# Altium footprint library 电容.PcbLib: 58 footprints (part 3 of 4)
Each footprint in its own frame and in the unit in brackets; x right, y up, seen from the top. Pads: shape width x height; smd on the part's side, far side on the other; paste and mask are expansions set on the pad; w line width, h text height; cw(c..) or ccw(c..) is an arc to the next point about the centre after c.
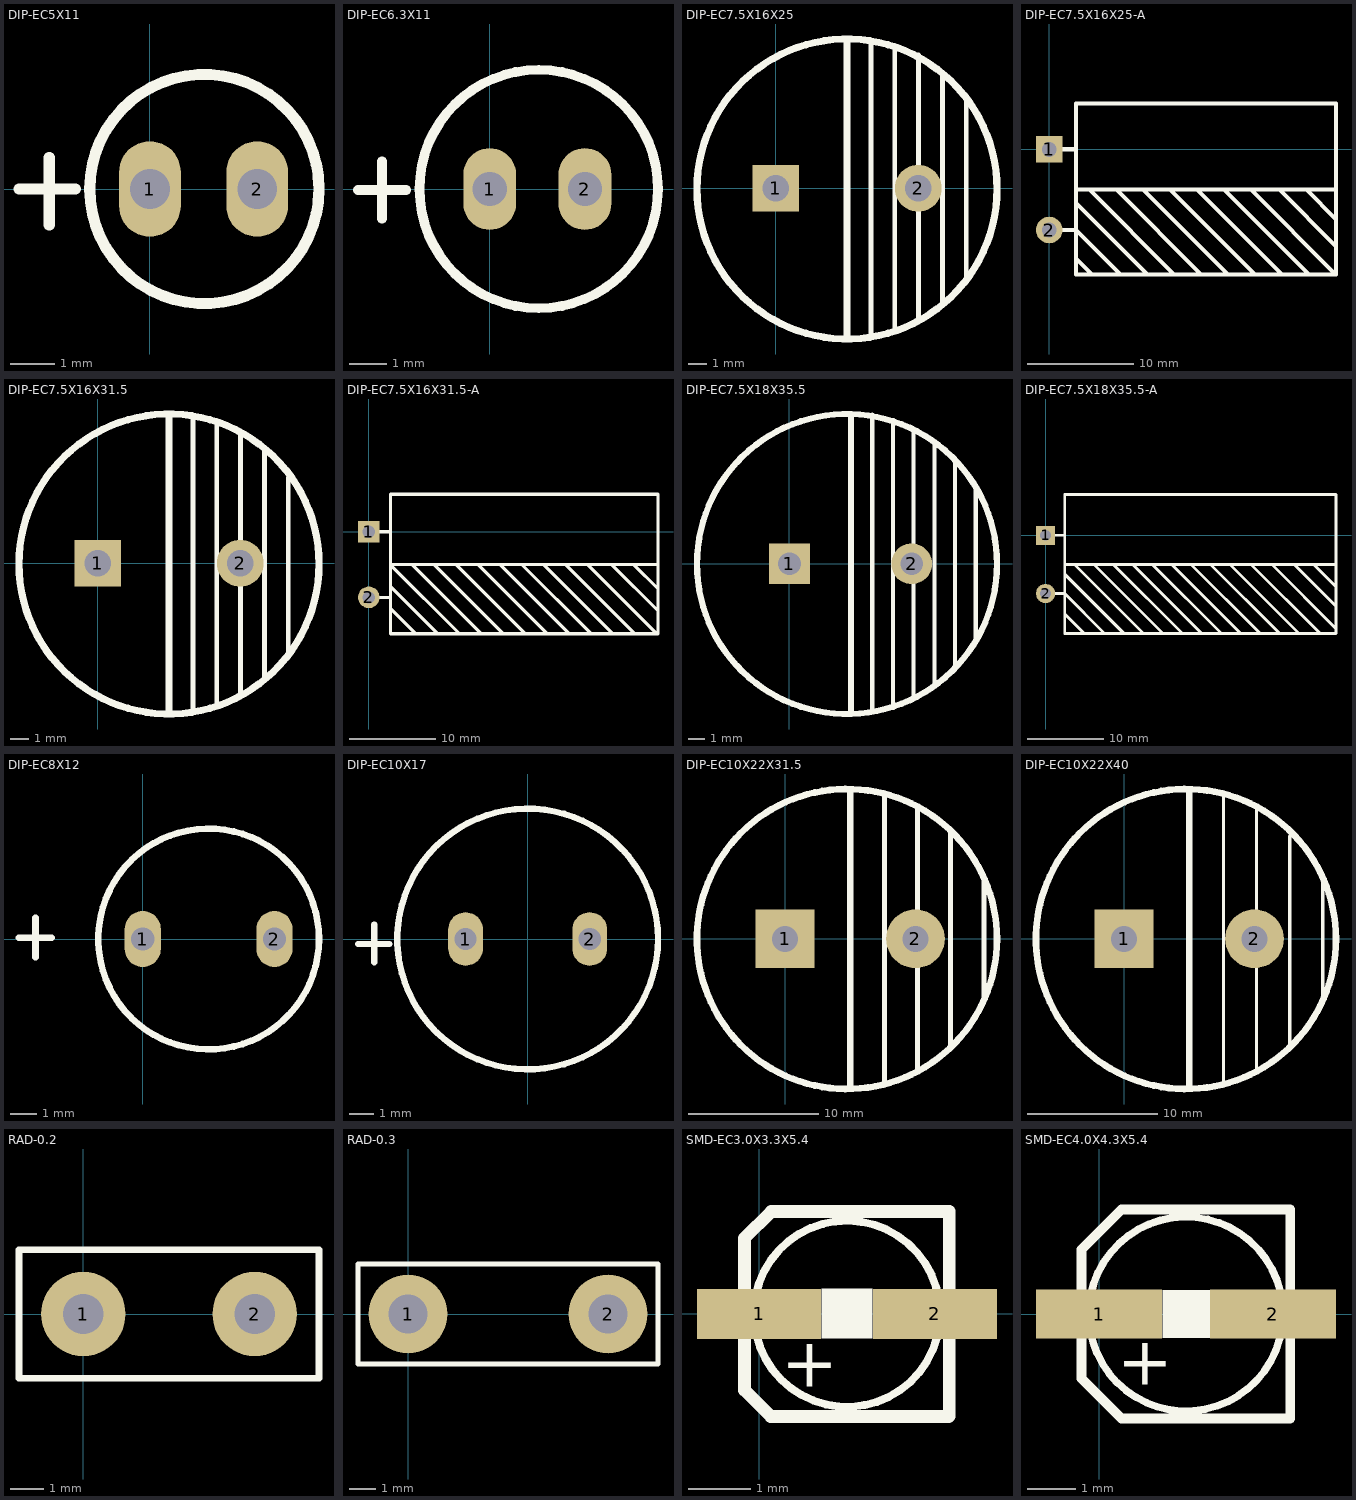
[diagram p2: the footprints below, top view; thin cyan lines are the x and y axes]

## DIP-EC5X11 [mil]
pads (2):
  oval 55x85 hole 35.43: 1(0,0) 2(95.5,0)
Top Overlay:
  circle w10: c48.5,0 r102.02
  lines w10: -116.5,0 -66.5,0 ; -89.5,-32 -89.5,28
3D body "CAP_5×11.STEP": height 491.5, standoff -158.11, extent -59.77,-111.24 156.77,105.24

## DIP-EC6.3X11 [mil]
pads (2):
  oval 55x85 hole 35.43: 1(0,0) 2(99,0)
Top Overlay:
  circle w10: c51,0 r124.02
  lines w10: -137,-1 -87,-1 ; -112,-31 -112,29
3D body "Cap_D63H110.STEP": height 492.13, standoff -118.11, extent -81.86,-134.45 184.71,132.44

## DIP-EC7.5X16X25 [mm]
pads (2):
  rect 2.5x2.5 hole 1.4: 1(0,0)
  round 2.5 hole 1.4: 2(7.6,0)
Top Overlay:
  circle w0.381: c3.8,-0.038 r8
  lines w0.254: 5.08,-7.874 5.08,7.874 ; 6.35,-7.62 6.35,7.62 ; 7.62,-7.112 7.62,7.112 ; 8.89,-6.096 8.89,6.096 ; 10.16,-4.826 10.16,4.826
  lines w0.381: 3.8,-8.001 3.8,7.925
3D body "CAP 7.5X16X25.STEP": height 25.03, standoff -3.38, extent -4.191,-7.998 11.819,7.998

## DIP-EC7.5X16X25-A [mm]
pads (2):
  rect 2.5x2.5 hole 1.4: 1(0,0)
  round 2.5 hole 1.4: 2(0,-7.6)
Top Overlay:
  lines w0.381: 1.232,-7.61 2.502,-7.61 6.693,-11.801 ; 1.232,0.01 2.502,0.01 ; 2.502,-10.277 4.026,-11.801 ; 2.502,-5.07 9.233,-11.801 ; 2.502,-3.8 27.013,-3.8 ; 3.772,-3.8 11.773,-11.801 ; 6.312,-3.8 14.313,-11.801 ; 8.852,-3.8 16.853,-11.801 ; 11.392,-3.8 19.393,-11.801 ; 13.932,-3.8 21.869,-11.738 ; 16.472,-3.8 24.409,-11.738 ; 19.012,-3.8 26.941,-11.729 ; 21.679,-3.8 27.013,-9.134 ; 24.219,-3.8 27.013,-6.594 ; 2.502,-11.801 2.502,4.328 27.013,4.328 27.013,-11.801 2.502,-11.801
3D body "CAP 7.5X16X25-H.STEP": height 16.03, standoff -3.47, extent -0.508,-11.688 26.902,4.322

## DIP-EC7.5X16X31.5 [mm]
pads (2):
  rect 2.5x2.5 hole 1.4: 1(0,0)
  round 2.5 hole 1.4: 2(7.6,0)
Top Overlay:
  circle w0.381: c3.8,-0.038 r8
  lines w0.254: 5.08,-7.874 5.08,7.874 ; 6.35,-7.62 6.35,7.62 ; 7.62,-7.112 7.62,6.858 ; 8.89,-6.096 8.89,6.096 ; 10.16,-4.826 10.16,4.572
  lines w0.381: 3.8,-8.001 3.8,7.925
3D body "CAP 7.5X16X31.5.STEP": height 31.53, standoff -3.38, extent -4.191,-7.872 11.819,8.126

## DIP-EC7.5X16X31.5-A [mm]
pads (2):
  rect 2.5x2.5 hole 1.4: 1(0,0)
  round 2.5 hole 1.4: 2(0,-7.6)
Top Overlay:
  lines w0.381: 1.232,-7.61 2.502,-7.61 ; 1.232,0.01 2.502,0.01 ; 2.502,-8.88 5.423,-11.801 ; 2.502,-6.34 7.963,-11.801 ; 5.042,-3.8 13.043,-11.801 ; 7.582,-3.8 15.519,-11.738 ; 10.122,-3.8 18.059,-11.738 ; 10.503,-11.801 2.502,-3.8 33.49,-3.8 ; 12.662,-3.8 20.599,-11.738 ; 15.202,-3.8 23.139,-11.738 ; 17.742,-3.8 25.679,-11.738 ; 20.282,-3.8 28.219,-11.738 ; 22.822,-3.8 30.759,-11.738 ; 25.362,-3.8 33.291,-11.729 ; 28.156,-3.8 33.49,-9.134 ; 30.696,-3.8 33.49,-6.594 ; 2.502,-11.801 2.502,4.328 33.49,4.328 33.49,-11.801 2.502,-11.801
3D body "CAP 7.5X16X31.5-H.STEP": height 16.03, standoff -3.47, extent -0.508,-11.688 33.402,4.322

## DIP-EC7.5X18X35.5 [mm]
pads (2):
  rect 2.5x2.5 hole 1.4: 1(0,0)
  round 2.5 hole 1.4: 2(7.5,0)
Top Overlay:
  circle w0.381: c3.532,-0.013 r9.2
  lines w0.254: 5.08,-8.89 5.08,9.144 ; 6.35,-8.636 6.35,8.636 ; 7.62,-8.128 7.62,8.128 ; 8.89,-7.366 8.89,7.366 ; 10.16,-6.35 10.16,6.35 ; 11.43,-4.826 11.43,4.572
  lines w0.381: 3.78,-9.144 3.78,9.144
3D body "CAP 7.5X18X35.5.STEP": height 35.54, standoff -3.37, extent -5.334,-9 12.676,9

## DIP-EC7.5X18X35.5-A [mm]
pads (2):
  rect 2.5x2.5 hole 1.4: 1(0,0)
  round 2.5 hole 1.4: 2(0,-7.6)
Top Overlay:
  lines w0.381: 1.232,-7.61 2.502,-7.61 7.697,-12.805 ; 1.232,0.01 2.502,0.01 ; 2.502,-10.277 5.013,-12.789 ; 2.502,-5.07 10.227,-12.795 ; 2.502,-3.8 37.942,-3.8 ; 3.772,-3.8 12.727,-12.755 ; 6.312,-3.8 15.287,-12.775 ; 8.852,-3.8 17.817,-12.765 ; 11.392,-3.8 20.377,-12.785 ; 13.932,-3.8 22.907,-12.775 ; 16.472,-3.8 25.437,-12.765 ; 19.012,-3.8 27.997,-12.785 ; 21.552,-3.8 30.527,-12.775 ; 24.092,-3.8 33.057,-12.765 ; 26.842,-3.8 35.812,-12.77 ; 29.582,-3.82 37.922,-12.16 ; 32.559,-3.86 37.893,-9.194 ; 35.099,-3.86 37.893,-6.654 ; 2.502,-12.8 2.502,5.32 37.942,5.32 37.942,-12.8 2.502,-12.8
3D body "CAP 7.5X18X35.5-H.STEP": height 18.03, standoff -3.47, extent -0.508,-12.815 37.902,5.195

## DIP-EC8X12 [mil]
pads (2):
  oval 55x85 hole 35.43: 1(0,0) 2(200,0)
Top Overlay:
  circle w10: c100,0 r167.61
  lines w10: -187.94,2 -137.94,2 ; -162.94,-28 -162.94,32
3D body "CAP_R150_D320_H570(8×14).STEP": height 566.93, standoff -114.17, extent -61.41,-161.41 261.42,161.42

## DIP-EC10X17 [mm]
pads (2):
  oval 1.397x2.159 hole 0.9: 1(-2.5,0) 2(2.5,0)
Top Overlay:
  circle w0.254: c0,0 r5.25
  lines w0.254: -6.833,-0.203 -5.563,-0.203 ; -6.172,-0.94 -6.172,0.584
3D body "Cap_D80H115.STEP": height 13, standoff -3, extent -4.148,-4.542 4.315,3.932

## DIP-EC10X22X31.5 [mm]
pads (2):
  rect 4.5x4.5 hole 2: 1(0,0)
  round 4.5 hole 2: 2(10,0)
Top Overlay:
  circle w0.508: c4.752,-0.013 r11.5
  lines w0.381: 7.62,-10.922 7.62,10.922 ; 10.16,-10.16 10.16,10.16 ; 12.7,-8.128 12.7,8.128 ; 15.24,-4.572 15.24,4.572
  lines w0.508: 5,-11.25 5,11.25
3D body "CAP 10X22X31.5.STEP": height 31.53, standoff -3.38, extent -5.969,-10.996 16.041,10.996

## DIP-EC10X22X40 [mm]
pads (2):
  rect 4.5x4.5 hole 2: 1(0,0)
  round 4.5 hole 2: 2(10,0)
Top Overlay:
  circle w0.508: c4.752,-0.013 r11.5
  lines w0.254: 7.62,-11.176 7.62,10.922 ; 10.16,-9.906 10.16,10.16 ; 12.7,-8.382 12.7,7.874 ; 15.24,-4.572 15.24,4.318
  lines w0.508: 5,-11.25 5,11.25
3D body "CAP 10X22X40.STEP": height 40.03, standoff -3.38, extent -6.005,-10.949 16.005,11.049

## RAD-0.2 [mm]
pads (2):
  round 2.5 hole 1.2: 1(0,0) 2(5.08,0)
Top Overlay:
  lines w0.2: -1.905,-1.905 -1.905,1.905 6.985,1.905 6.985,-1.905 -1.905,-1.905
3D body "User Library-Ceramic Disc Capacitor 0_2in pitch.STEP": height 7.06, standoff -1.44, extent -0.959,-0.848 6.04,0.848

## RAD-0.3 [mm]
pads (2):
  round 3 hole 1.5: 1(0,0) 2(7.62,0)
Top Overlay:
  lines w0.2: -1.905,-1.905 9.525,-1.905 9.525,1.905 -1.905,1.905 -1.905,-1.905
3D body "User Library-Capacitor MKT_B32591C3104 (Pitch 10mm).STEP": height 11.5, standoff -7, extent -2.563,-2.46 10.437,2.54

## SMD-EC3.0X3.3X5.4 [mm]
pads (2):
  rect 2x0.8 smd: 1(0,0) 2(2.835,0)
Top Overlay:
  rectangle: 1.003,-0.399 1.832,0.407
  lines w0.127: 2.777,0.636 ccw(c1.417,0.003) 2.777,0.634
  lines w0.203: 0.19,1.646 -0.234,1.222 -0.234,-1.229 0.19,-1.653 3.059,-1.653 ; 0.195,1.651 3.066,1.651 3.066,-1.647
  text "+" at 0.361,-1.174 h0.8
Mechanical 7:
  text ".Comment" at 0,-0.635 h0.76
  text ".Designator" at -0.014,0.364 h0.76
3D body "ALU-A_3.0x3.3x5.4.STEP": height 5.4, standoff 0, extent -0.403,-1.649 3.197,1.651

## SMD-EC4.0X4.3X5.4 [mm]
pads (2):
  rect 2.6x1 smd: 1(0,0) 2(3.579,0)
Top Overlay:
  rectangle: 1.302,-0.499 2.279,0.5
  lines w0.152: 3.561,0.924 ccw(c1.787,0) 3.562,0.921
  lines w0.203: 3.936,2.151 0.461,2.151 -0.364,1.325 -0.364,-1.324 0.461,-2.15 3.937,-2.15 3.937,2.15
  text "+" at 0.37,-1.46 h1
Mechanical 7:
  text ".Comment" at -0.127,-0.635 h0.76
  text ".Designator" at -0.141,0.364 h0.76
3D body "ALU-B_4.0x4.3x5.4.STEP": height 5.4, standoff 0, extent -0.522,-2.15 4.078,2.15